# Altium footprint library RESISTOR.PcbLib: 31 footprints (part 1 of 2)
Each footprint in its own frame and in the unit in brackets; x right, y up, seen from the top. Pads: shape width x height; smd on the part's side, far side on the other; paste and mask are expansions set on the pad; w line width, h text height; cw(c..) or ccw(c..) is an arc to the next point about the centre after c.
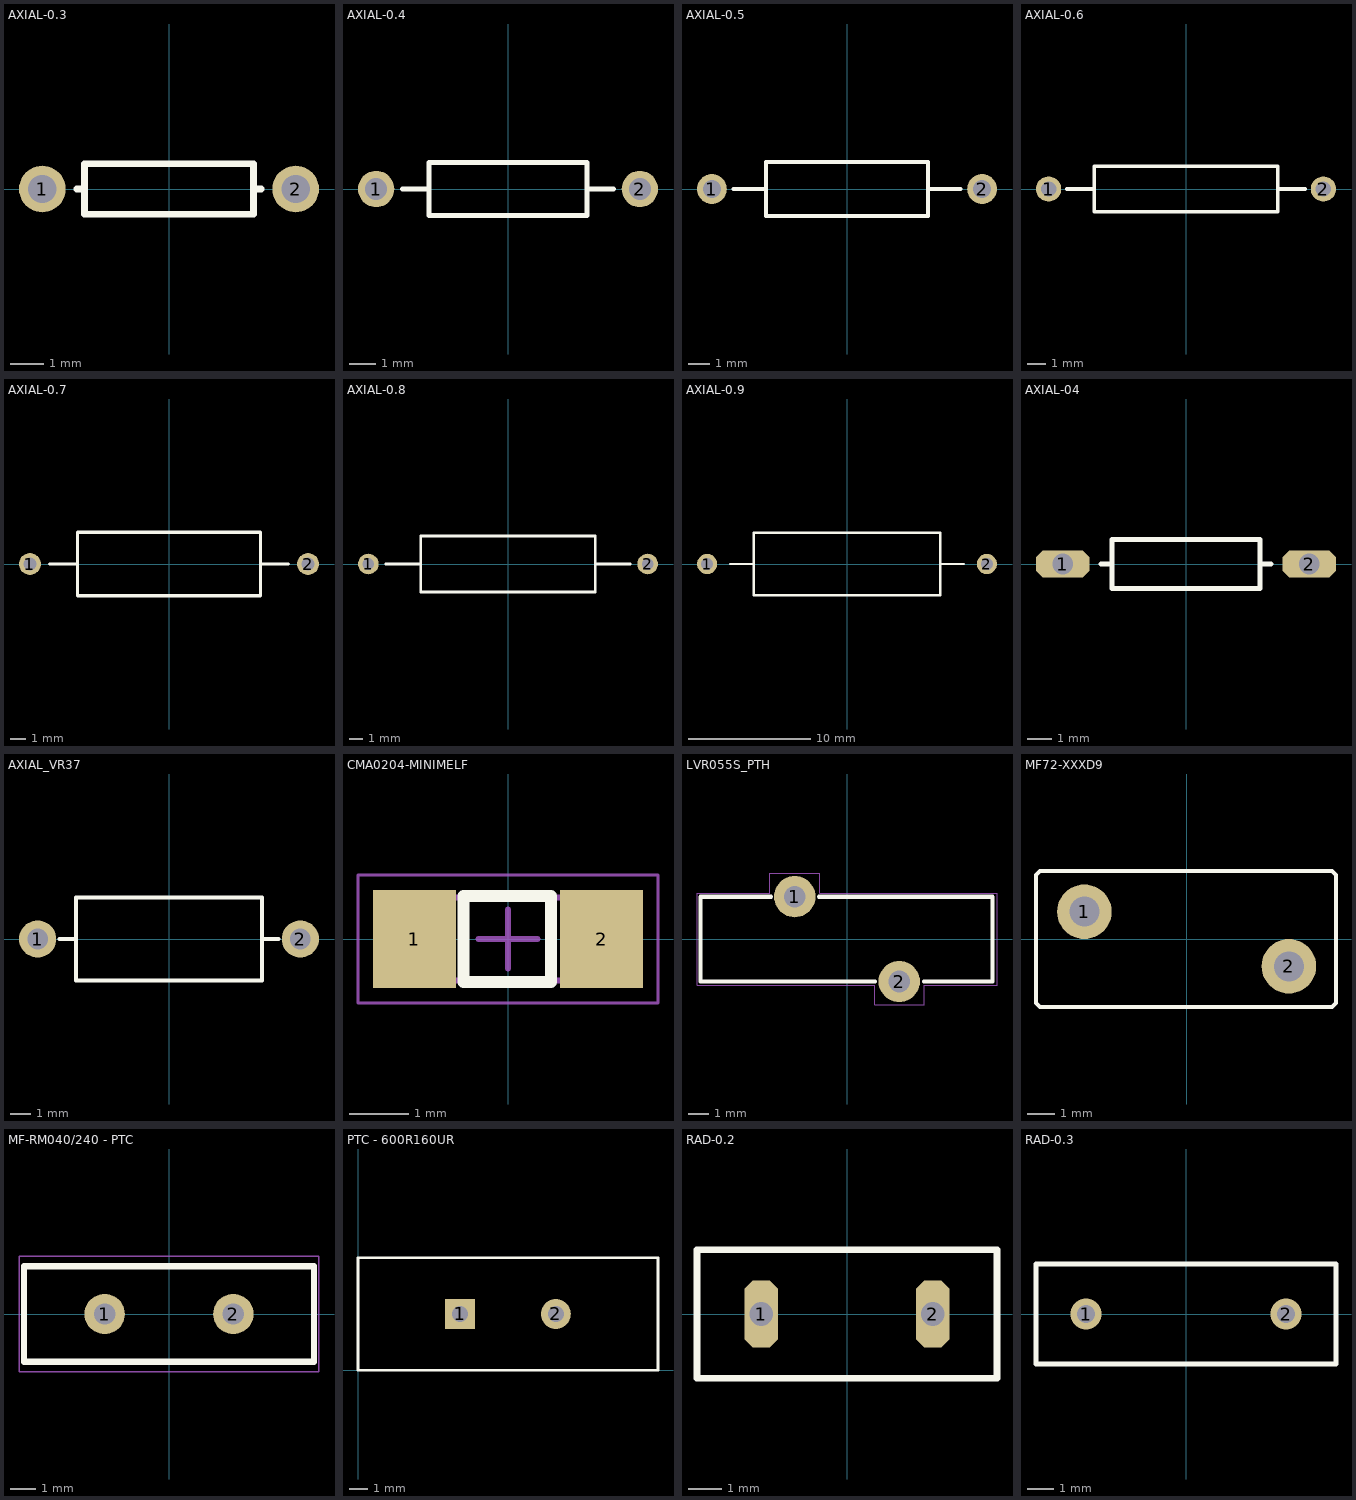
[diagram p0: the footprints below, top view; thin cyan lines are the x and y axes]

## AXIAL-0.3 [mm]
height 1.524
pads (2):
  round 1.4 hole 0.85: 1(-3.81,0) 2(3.81,0)
Top Overlay:
  lines w0.2: -2.769,0 -2.54,0 ; 2.769,0 2.54,0 ; 2.54,0 2.54,-0.762 -2.54,-0.762 -2.54,0.762 2.54,0.762 2.54,0

## AXIAL-0.4 [mm]
height 2.032
pads (2):
  round 1.4 hole 0.85: 1(-5.08,0) 2(5.08,0)
Top Overlay:
  lines w0.2: -4.064,0 -3.048,0 ; 3.048,0 4.064,0 ; -3.048,-1.016 -3.048,1.016 3.048,1.016 3.048,-1.016 -3.048,-1.016

## AXIAL-0.5 [mm]
height 2.54
pads (2):
  round 1.4 hole 0.85: 1(-6.35,0) 2(6.35,0)
Top Overlay:
  lines w0.2: -5.334,0 -3.81,0 ; 3.81,0 5.334,0 ; -3.81,-1.27 3.81,-1.27 3.81,1.27 -3.81,1.27 -3.81,-1.27

## AXIAL-0.6 [mm]
height 2.54
pads (2):
  round 1.4 hole 0.85: 1(-7.62,0) 2(7.62,0)
Top Overlay:
  lines w0.2: -6.604,0 -5.08,0 ; 5.08,0 6.604,0 ; -5.08,-1.27 5.08,-1.27 5.08,1.27 -5.08,1.27 -5.08,-1.27

## AXIAL-0.7 [mm]
height 4.064
pads (2):
  round 1.4 hole 0.85: 1(-8.89,0) 2(8.89,0)
Top Overlay:
  lines w0.2: -7.62,0 -5.842,0 ; 5.842,0 7.62,0 ; -5.842,-2.032 5.842,-2.032 5.842,2.032 -5.842,2.032 -5.842,-2.032

## AXIAL-0.8 [mm]
height 4.064
pads (2):
  round 1.5 hole 0.85: 1(-10.16,0) 2(10.16,0)
Top Overlay:
  lines w0.2: -8.89,0 -6.35,0 ; 6.35,0 8.89,0 ; -6.35,-2.032 6.35,-2.032 6.35,2.032 -6.35,2.032 -6.35,-2.032
3D body "Resistor2W-20mm.STEP": height 5.5, standoff -1.7, extent -10.4,-2.5 10.4,2.5

## AXIAL-0.9 [mm]
height 5.08
pads (2):
  round 1.65 hole 1: 1(-11.43,0) 2(11.43,0)
Top Overlay:
  lines w0.2: -9.525,0 -7.62,0 ; 7.62,0 9.525,0 ; -7.62,-2.54 7.62,-2.54 7.62,2.54 -7.62,2.54 -7.62,-2.54

## AXIAL-04 [mm]
height 2.032
pads (2):
  oct 2.2x1.1 hole 0.85: 1(-5.08,0) 2(5.08,0)
Top Overlay:
  lines w0.2: -3.5,0 -3.048,0 ; 3.048,0 3.5,0 ; -3.048,-1.016 3.048,-1.016 3.048,1.016 -3.048,1.016 -3.048,-1.016
3D body "RESISTOR, 0.25 W, 0.4 IN LEAD PITCH.STEP": height 3.93, standoff -1.54, extent -5.385,-1.156 5.385,1.156

## AXIAL_VR37 [mm] "RESISTOR PTH 0.5W MODELO VR7_PITCH 12.7mm"
height 4
pads (2):
  round 1.8 hole 1: 1(-6.35,0) 2(6.35,0)
Top Overlay:
  lines w0.2: -5.3,0 -4.5,0 ; 4.5,0 5.3,0 ; -4.5,-2 4.5,-2 4.5,2 -4.5,2 -4.5,-2
3D body "User Library-Res50-Axial 0_5W-1M.STEP": height 5.38, standoff -4, extent -6.725,-1.875 6.725,1.875

## CMA0204-MINIMELF [mm] "MELF Resistor, 2-Leads, Body 3,60x1,40mm, IPC Medium Density"
height 1.4
pads (2):
  rect 1.4x1.65 smd: 1(-1.575,0) 2(1.575,0)
Top Overlay:
  lines w0.2: -0.75,-0.725 -0.75,0.725 0.725,0.725 0.725,-0.725 -0.75,-0.725
Mechanical 13:
  lines w0.1: -1.8,-0.7 1.8,-0.7 1.8,0.7 -1.8,0.7 -1.8,-0.7
Mechanical 15:
  lines w0.05: -2.525,-1.075 2.525,-1.075 2.525,1.075 -2.525,1.075 -2.525,-1.075
  lines w0.1: -0.5,0 0.5,0 ; 0,-0.5 0,0.5
3D body "CMA0204-MINIMELF.step": height 1.4, standoff 0.01, extent -1.8,-0.699 1.8,0.699

## LVR055S_PTH [mm] "Radial 14 X 4.1 X 21.7mm"
height 21.7
pads (2):
  round 2 hole 1.05: 1(-2.525,2.05) 2(2.525,-2.05)
Top Overlay:
  lines w0.2: -3.675,2.05 -7.075,2.05 -7.075,-2.05 1.35,-2.05 ; -1.35,2.05 7.025,2.05 7.025,-2.05 3.725,-2.05
Mechanical 16:
  lines w0.05: -7.25,-2.225 1.35,-2.225 1.35,-3.175 3.725,-3.175 3.725,-2.225 7.25,-2.225 7.25,2.225 -1.325,2.225 -1.325,3.185 -3.725,3.185 -3.725,2.225 -7.25,2.225 -7.25,-2.225
3D body: height 7, standoff 0, extent 2.029,-2.549 3.025,-1.551
3D body: height 6, standoff -3, extent -2.922,1.651 -2.125,2.449
3D body: height 21.7, standoff 0, extent -7.075,-2.05 7.025,2.05
3D body: height 6, standoff -3, extent 2.128,-2.449 2.925,-1.651
3D body: height 7, standoff 0, extent -3.021,1.551 -2.025,2.549

## MF72-XXXD9 [mm] "Radial 11 X 7.50mm"
height 11
pads (2):
  round 2 hole 1.1: 1(-3.75,1) 2(3.75,-1)
Top Overlay:
  lines w0.15: -5.525,-2.35 -5.375,-2.5 4.75,-2.5 5.325,-2.5 5.475,-2.35 5.475,2.35 5.325,2.5 -4.8,2.5 -5.375,2.5 -5.525,2.35 -5.525,-2.35
3D body: height 11.5, standoff 0.5, extent -5.5,-2 5.5,2
3D body: height 4, standoff -3, extent 3.353,-1.399 4.15,-0.601
3D body: height 4, standoff -3, extent -4.147,0.601 -3.35,1.399

## MF-RM040/240 - PTC [mm] "Radial 11.5 X 3.8 X 20.9mm"
height 20.9
pads (2):
  round 1.6 hole 0.85: 1(-2.55,0) 2(2.55,0)
Top Overlay:
  lines w0.25: -5.75,-1.9 5.75,-1.9 5.75,1.9 -5.75,1.9 -5.75,-1.9
Mechanical 16:
  lines w0.05: -5.95,-2.3 -5.95,-2.1 -5.95,2.3 5.95,2.3 5.95,-2.1 5.95,-2.3 -5.95,-2.3
3D body "User Library-mf-rm040.STEP": height 19.4, standoff -4.5, extent -5.75,-2.3 5.75,2.3

## PTC - 600R160UR [mm] "Fusíveis rearmáveis - PPTC PTC 60V/600V.160A POLY TELECOM"
height 19
pads (2):
  rect 1.6x1.6 hole 0.85: 1(5.45,3)
  round 1.6 hole 0.85: 2(10.55,3)
Top Overlay:
  lines w0.15: 0,0 0,6 16,6 16,0 0,0
3D body "User Library-mf-rm040.STEP": height 19.4, standoff -4.5, extent 2.25,0.7 13.75,5.3

## RAD-0.2 [mm]
pads (2):
  oct 1x2 hole 0.7: 1(-2.54,0) 2(2.54,0)
Top Overlay:
  lines w0.2: -4.445,-1.905 -4.445,1.905 4.445,1.905 4.445,-1.905 -4.445,-1.905

## RAD-0.3 [mm]
height 6
pads (2):
  round 1.2 hole 0.7: 1(-3.81,0) 2(3.81,0)
Top Overlay:
  lines w0.2: -5.715,-1.905 5.715,-1.905 5.715,1.905 -5.715,1.905 -5.715,-1.905